# Altium schematic symbol library 61304011121-5.SchLib: 1 symbol
Pins are listed as number, name and electrical type; pins without a type are passive.

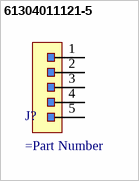
[diagram p0: symbol 61304011121-5]

## 61304011121-5
designator J?
=Description
pins: 1, 2, 3, 4, 5